# Altium footprint library CAPC2012X95N.PcbLib: 1 footprints
Each footprint in its own frame and in the unit in brackets; x right, y up, seen from the top. Pads: shape width x height; smd on the part's side, far side on the other; paste and mask are expansions set on the pad; w line width, h text height; cw(c..) or ccw(c..) is an arc to the next point about the centre after c.
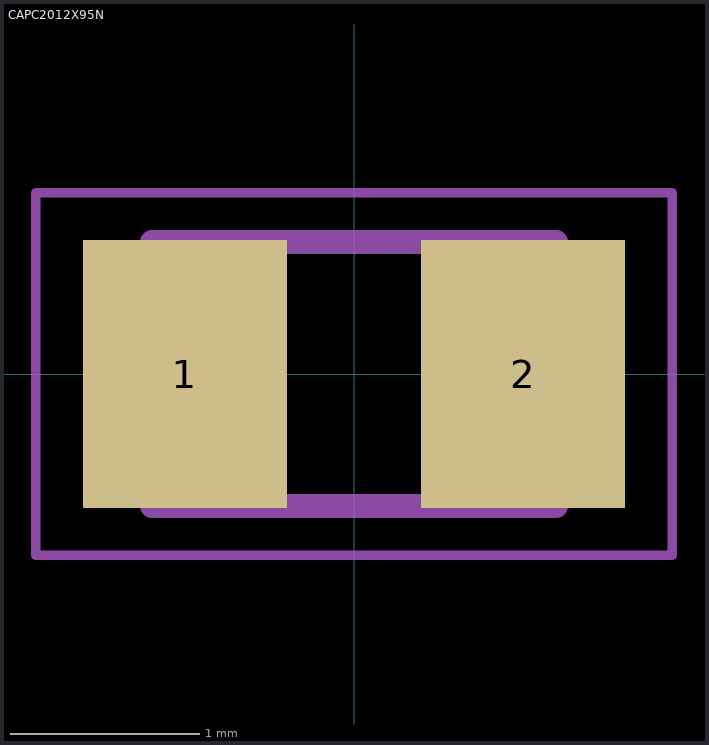
[diagram p0: the footprint, top view; thin cyan lines are the x and y axes]

## CAPC2012X95N [mm]
pads (2):
  rect 1.08x1.42 smd: 1(-0.895,0) 2(0.895,0)
Mechanical 13:
  lines w0.127: -1.07,-0.7 1.07,-0.7 1.07,0.7 -1.07,0.7 -1.07,-0.7
Mechanical 15:
  lines w0.05: -1.685,-0.96 1.685,-0.96 1.685,0.96 -1.685,0.96 -1.685,-0.96